# Altium schematic symbol library ft8u245am.Schlib: 1 symbol
Pins are listed as number, name and electrical type; pins without a type are passive.

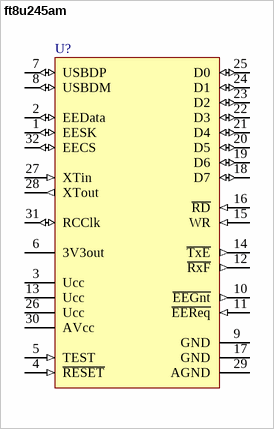
[diagram p0: symbol ft8u245am]

## ft8u245am
designator U?
USB to FIFO intarface, 32-Pin TQFP; Package Information: Latest Revision: ver11.0, Feb-2003; Configures: APEX II, APEX 20K, Mercury, ACEX 1K & FLEX Devices; Code - JEDEC: MS-026-ABA; Published: 17-Sep-2003; Datasheet: Latest Revision: ver1.1, Oct-2003; Package Reference: TQFP32; Publisher: Altium Limited
footprint TQFP32
pins: 1 EESK (io), 2 EEData (io), 3 Ucc (power) "Mode select for VCC", 4 ~{RESET} (in), 5 TEST (in), 6 3V3out (power), 7 USBDP (io) "1k5 pull-up to 3V3out", 8 USBDM (io), 9 GND (power) "No Connect", 10 ~{EEGnt} (out), 11 ~{EEReq} (in), 12 ~{RxF} (out), 13 Ucc (power), 14 ~{TxE} (out) "No Connect", 15 WR (in), 16 ~{RD} (in), 17 GND (power) "Mode select for VPP", 18 D7 (io), 19 D6 (io), 20 D5 (io), 21 D4 (io), 22 D3 (io), 23 D2 (io), 24 D1 (io), 25 D0 (io), 26 Ucc (power), 27 XTin (in) "6 MHz external osc", 28 XTout (out) "6 MHz external osc", 29 AGND (power), 30 AVcc (power), 31 RCClk (io), 32 EECS (io)